# EAGLE library part ENCODER-SW (library Sensors)
Quadrature Encoder - Integrated Switch
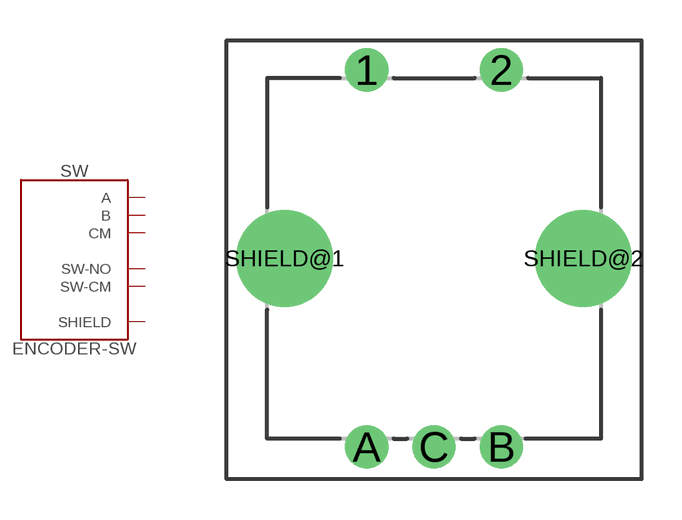
[diagram p3: symbol with the pads of PEC12R-4-S; footprint PEC12R-4-S]

Designator prefix SW

## ENCODER-SW-PEC12R-4-S (COUNTS: 24PPR; SKU: 66-0006; VALUE: [Override])  [PEC12R-4-S]
1  SW-CM  pas
2  SW-NO  pas
A  A  pas
B  B  pas
C  CM  pas
SHIELD@1  SHIELD  pas
SHIELD@2  SHIELD  pas

## Footprint PEC12R-4-S (pad centres in mm)
PEC12R-4-S
drill 1 pad 1.6: 1 -2.5,7; 2 2.5,7; A -2.5,-7; B 2.5,-7; C 0,-7
drill 2.1 pad 3.6: SHIELD@1 -5.55,0; SHIELD@2 5.55,0